# Altium footprint library switch-dil.PCBLIB: 88 footprints (part 6 of 6)
Each footprint in its own frame and in the unit in brackets; x right, y up, seen from the top. Pads: shape width x height; smd on the part's side, far side on the other; paste and mask are expansions set on the pad; w line width, h text height; cw(c..) or ccw(c..) is an arc to the next point about the centre after c.
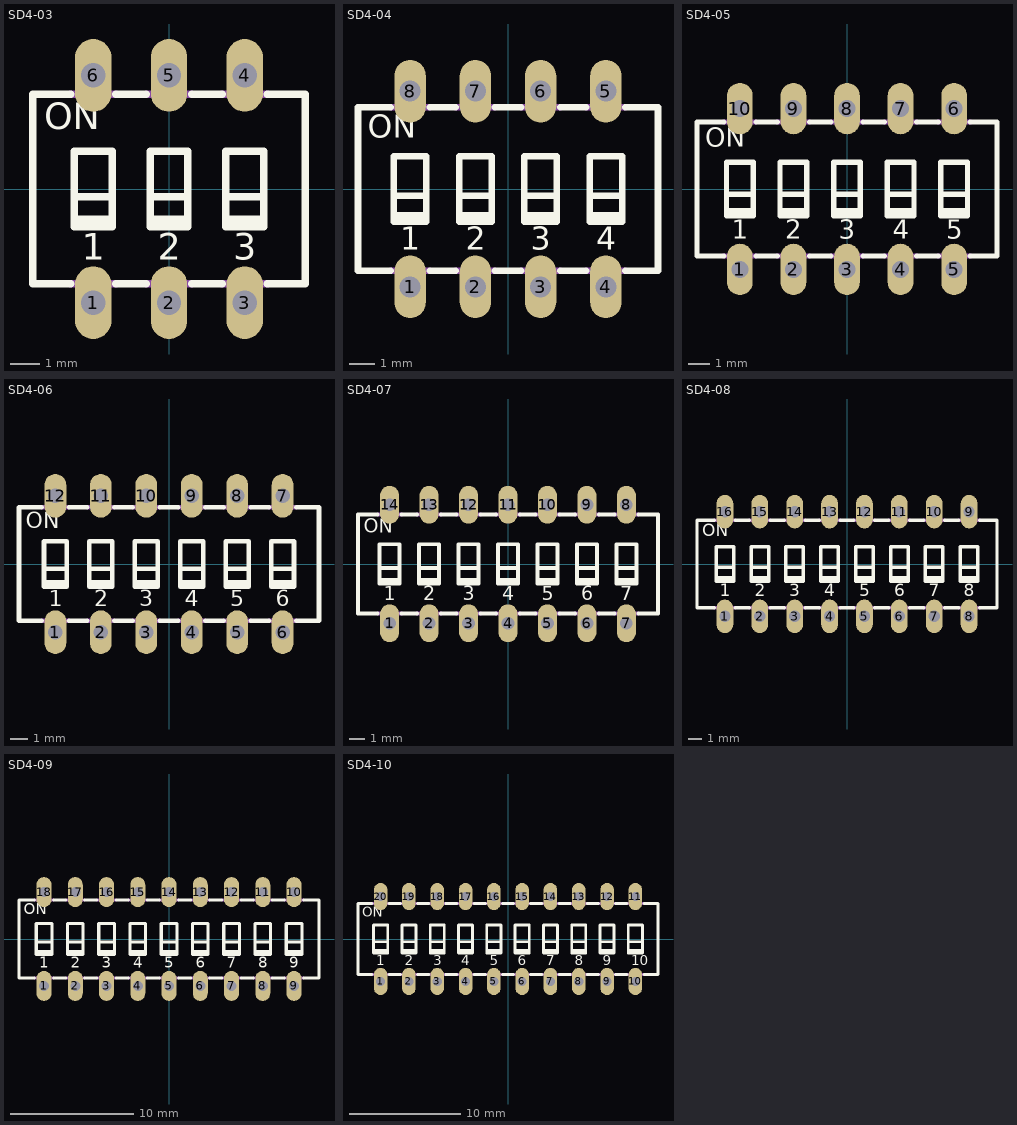
[diagram p5: the footprints below, top view; thin cyan lines are the x and y axes]

## SD4-03 [mil]
pads (6):
  oval 48x96 hole 32: 1(-100,-150) 2(0,-150) 3(100,-150) 4(100,150) 5(0,150) 6(-100,150)
Top Overlay:
  lines w10: -130,-125 -180,-125 -180,125 -130,125 ; -120,-40 -80,-40 ; -120,-10 -80,-10 ; -70,-125 -30,-125 ; -70,125 -30,125 ; -20,-40 20,-40 ; -20,-10 20,-10 ; 30,-125 70,-125 ; 30,125 70,125 ; 80,-40 120,-40 ; 80,-10 120,-10 ; 130,-125 180,-125 180,125 130,125 ; -125,-50 -75,-50 -75,50 -125,50 -125,-50 ; -25,-50 25,-50 25,50 -25,50 -25,-50 ; 75,-50 125,-50 125,50 75,50 75,-50
  text "1" at -115,-105 h60.45
  text "2" at -15,-105 h60.45
  text "3" at 85,-105 h60.45
  text "ON" at -165,67 h60.45
Mechanical 16:
  rectangle: -115,125 -85,155
  rectangle: -15,125 15,155
  rectangle: 85,125 115,155
  rectangle: -115,-155 -85,-125
  rectangle: -15,-155 15,-125
  rectangle: 85,-155 115,-125
  lines w10: -130,-125 -70,-125 ; -130,125 -70,125 ; -30,-125 30,-125 ; -30,125 30,125 ; 70,-125 130,-125 ; 70,125 130,125

## SD4-04 [mil]
pads (8):
  oval 48x96 hole 32: 1(-150,-150) 2(-50,-150) 3(50,-150) 4(150,-150) 5(150,150) 6(50,150) 7(-50,150) 8(-150,150)
Top Overlay:
  lines w10: -180,-125 -230,-125 -230,125 -180,125 ; -170,-40 -130,-40 ; -170,-10 -130,-10 ; -120,-125 -80,-125 ; -120,125 -80,125 ; -70,-40 -30,-40 ; -70,-10 -30,-10 ; -20,-125 20,-125 ; -20,125 20,125 ; 30,-40 70,-40 ; 30,-10 70,-10 ; 80,-125 120,-125 ; 80,125 120,125 ; 130,-40 170,-40 ; 130,-10 170,-10 ; 180,-125 230,-125 230,125 180,125 ; -175,-50 -125,-50 -125,50 -175,50 -175,-50 ; -75,-50 -25,-50 -25,50 -75,50 -75,-50 ; 25,-50 75,-50 75,50 25,50 25,-50 ; 125,-50 175,-50 175,50 125,50 125,-50
  text "1" at -165,-105 h60.45
  text "2" at -65,-105 h60.45
  text "3" at 35,-105 h60.45
  text "4" at 135,-105 h60.45
  text "ON" at -215,67 h60.45
Mechanical 16:
  rectangle: -165,125 -135,155
  rectangle: -65,125 -35,155
  rectangle: 35,125 65,155
  rectangle: 135,125 165,155
  rectangle: -165,-155 -135,-125
  rectangle: -65,-155 -35,-125
  rectangle: 35,-155 65,-125
  rectangle: 135,-155 165,-125
  lines w10: -180,-125 -120,-125 ; -180,125 -120,125 ; -80,-125 -20,-125 ; -80,125 -20,125 ; 20,-125 80,-125 ; 20,125 80,125 ; 120,-125 180,-125 ; 120,125 180,125

## SD4-05 [mil]
pads (10):
  oval 48x96 hole 32: 1(-200,-150) 2(-100,-150) 3(0,-150) 4(100,-150) 5(200,-150) 6(200,150) 7(100,150) 8(0,150) 9(-100,150) 10(-200,150)
Top Overlay:
  lines w10: -230,-125 -280,-125 -280,125 -230,125 ; -220,-40 -180,-40 ; -220,-10 -180,-10 ; -170,-125 -130,-125 ; -170,125 -130,125 ; -120,-40 -80,-40 ; -120,-10 -80,-10 ; -70,-125 -30,-125 ; -70,125 -30,125 ; -20,-40 20,-40 ; -20,-10 20,-10 ; 30,-125 70,-125 ; 30,125 70,125 ; 80,-40 120,-40 ; 80,-10 120,-10 ; 130,-125 170,-125 ; 130,125 170,125 ; 180,-40 220,-40 ; 180,-10 220,-10 ; 230,-125 280,-125 280,125 230,125 ; -225,-50 -175,-50 -175,50 -225,50 -225,-50 ; -125,-50 -75,-50 -75,50 -125,50 -125,-50 ; -25,-50 25,-50 25,50 -25,50 -25,-50 ; 75,-50 125,-50 125,50 75,50 75,-50 ; 175,-50 175,50 225,50 225,-50 175,-50
  text "1" at -215,-105 h60.45
  text "2" at -115,-105 h60.45
  text "3" at -15,-105 h60.45
  text "4" at 85,-105 h60.45
  text "ON" at -265,67 h60.45
  text "5" at 185,-105 h60.45
Mechanical 16:
  rectangle: -215,125 -185,155
  rectangle: -115,125 -85,155
  rectangle: -15,125 15,155
  rectangle: 85,125 115,155
  rectangle: -215,-155 -185,-125
  rectangle: -115,-155 -85,-125
  rectangle: -15,-155 15,-125
  rectangle: 85,-155 115,-125
  rectangle: 185,125 215,155
  rectangle: 185,-155 215,-125
  lines w10: -230,-125 -170,-125 ; -230,125 -170,125 ; -130,-125 -70,-125 ; -130,125 -70,125 ; -30,-125 30,-125 ; -30,125 30,125 ; 70,-125 130,-125 ; 70,125 130,125 ; 170,-125 230,-125 ; 170,125 230,125

## SD4-06 [mil]
pads (12):
  oval 48x96 hole 32: 1(-250,-150) 2(-150,-150) 3(-50,-150) 4(50,-150) 5(150,-150) 6(250,-150) 7(250,150) 8(150,150) 9(50,150) 10(-50,150) 11(-150,150) 12(-250,150)
Top Overlay:
  lines w10: -280,-125 -330,-125 -330,125 -280,125 ; -270,-40 -230,-40 ; -270,-10 -230,-10 ; -220,-125 -180,-125 ; -220,125 -180,125 ; -170,-40 -130,-40 ; -170,-10 -130,-10 ; -120,-125 -80,-125 ; -120,125 -80,125 ; -70,-40 -30,-40 ; -70,-10 -30,-10 ; -20,-125 20,-125 ; -20,125 20,125 ; 30,-40 70,-40 ; 30,-10 70,-10 ; 80,-125 120,-125 ; 80,125 120,125 ; 130,-40 170,-40 ; 130,-10 170,-10 ; 180,-125 220,-125 ; 180,125 220,125 ; 230,-40 270,-40 ; 230,-10 270,-10 ; 280,-125 330,-125 330,125 280,125 ; -275,-50 -225,-50 -225,50 -275,50 -275,-50 ; -175,-50 -125,-50 -125,50 -175,50 -175,-50 ; -75,-50 -25,-50 -25,50 -75,50 -75,-50 ; 25,-50 75,-50 75,50 25,50 25,-50 ; 125,-50 175,-50 175,50 125,50 125,-50 ; 225,-50 275,-50 275,50 225,50 225,-50
  text "1" at -265,-105 h60.45
  text "2" at -165,-105 h60.45
  text "3" at -65,-105 h60.45
  text "4" at 35,-105 h60.45
  text "ON" at -315,67 h60.45
  text "5" at 135,-105 h60.45
  text "6" at 235,-105 h60.45
Mechanical 16:
  rectangle: -265,125 -235,155
  rectangle: -165,125 -135,155
  rectangle: -65,125 -35,155
  rectangle: 35,125 65,155
  rectangle: -265,-155 -235,-125
  rectangle: -165,-155 -135,-125
  rectangle: -65,-155 -35,-125
  rectangle: 35,-155 65,-125
  rectangle: 135,125 165,155
  rectangle: 235,125 265,155
  rectangle: 135,-155 165,-125
  rectangle: 235,-155 265,-125
  lines w10: -280,-125 -220,-125 ; -280,125 -220,125 ; -180,-125 -120,-125 ; -180,125 -120,125 ; -80,-125 -20,-125 ; -80,125 -20,125 ; 20,-125 80,-125 ; 20,125 80,125 ; 120,-125 180,-125 ; 120,125 180,125 ; 220,-125 280,-125 ; 220,125 280,125

## SD4-07 [mil]
pads (14):
  oval 48x96 hole 32: 1(-300,-150) 2(-200,-150) 3(-100,-150) 4(0,-150) 5(100,-150) 6(200,-150) 7(300,-150) 8(300,150) 9(200,150) 10(100,150) 11(0,150) 12(-100,150) 13(-200,150) 14(-300,150)
Top Overlay:
  lines w10: -330,-125 -380,-125 -380,125 -330,125 ; -320,-40 -280,-40 ; -320,-10 -280,-10 ; -270,-125 -230,-125 ; -270,125 -230,125 ; -220,-40 -180,-40 ; -220,-10 -180,-10 ; -170,-125 -130,-125 ; -170,125 -130,125 ; -120,-40 -80,-40 ; -120,-10 -80,-10 ; -70,-125 -30,-125 ; -70,125 -30,125 ; -20,-40 20,-40 ; -20,-10 20,-10 ; 30,-125 70,-125 ; 30,125 70,125 ; 80,-40 120,-40 ; 80,-10 120,-10 ; 130,-125 170,-125 ; 130,125 170,125 ; 180,-40 220,-40 ; 180,-10 220,-10 ; 230,-125 270,-125 ; 230,125 270,125 ; 280,-40 320,-40 ; 280,-10 320,-10 ; 330,-125 380,-125 380,125 330,125 ; -325,-50 -275,-50 -275,50 -325,50 -325,-50 ; -225,-50 -175,-50 -175,50 -225,50 -225,-50 ; -125,-50 -75,-50 -75,50 -125,50 -125,-50 ; -25,-50 25,-50 25,50 -25,50 -25,-50 ; 75,-50 125,-50 125,50 75,50 75,-50 ; 175,-50 225,-50 225,50 175,50 175,-50 ; 275,-50 325,-50 325,50 275,50 275,-50
  text "1" at -315,-105 h60.45
  text "2" at -215,-105 h60.45
  text "3" at -115,-105 h60.45
  text "4" at -15,-105 h60.45
  text "ON" at -365,67 h60.45
  text "5" at 85,-105 h60.45
  text "6" at 185,-105 h60.45
  text "7" at 285,-105 h60.45
Mechanical 16:
  rectangle: -315,125 -285,155
  rectangle: -215,125 -185,155
  rectangle: -115,125 -85,155
  rectangle: -15,125 15,155
  rectangle: -315,-155 -285,-125
  rectangle: -215,-155 -185,-125
  rectangle: -115,-155 -85,-125
  rectangle: -15,-155 15,-125
  rectangle: 85,125 115,155
  rectangle: 185,125 215,155
  rectangle: 285,125 315,155
  rectangle: 85,-155 115,-125
  rectangle: 185,-155 215,-125
  rectangle: 285,-155 315,-125
  lines w10: -330,-125 -270,-125 ; -330,125 -270,125 ; -230,-125 -170,-125 ; -230,125 -170,125 ; -130,-125 -70,-125 ; -130,125 -70,125 ; -30,-125 30,-125 ; -30,125 30,125 ; 70,-125 130,-125 ; 70,125 130,125 ; 170,-125 230,-125 ; 170,125 230,125 ; 270,-125 330,-125 ; 270,125 330,125

## SD4-08 [mil]
pads (16):
  oval 48x96 hole 32: 1(-350,-150) 2(-250,-150) 3(-150,-150) 4(-50,-150) 5(50,-150) 6(150,-150) 7(250,-150) 8(350,-150) 9(350,150) 10(250,150) 11(150,150) 12(50,150) 13(-50,150) 14(-150,150) 15(-250,150) 16(-350,150)
Top Overlay:
  lines w10: -380,-125 -430,-125 -430,125 -380,125 ; -370,-40 -330,-40 ; -370,-10 -330,-10 ; -320,-125 -280,-125 ; -320,125 -280,125 ; -270,-40 -230,-40 ; -270,-10 -230,-10 ; -220,-125 -180,-125 ; -220,125 -180,125 ; -170,-40 -130,-40 ; -170,-10 -130,-10 ; -120,-125 -80,-125 ; -120,125 -80,125 ; -70,-40 -30,-40 ; -70,-10 -30,-10 ; -20,-125 20,-125 ; -20,125 20,125 ; 30,-40 70,-40 ; 30,-10 70,-10 ; 80,-125 120,-125 ; 80,125 120,125 ; 130,-40 170,-40 ; 130,-10 170,-10 ; 180,-125 220,-125 ; 180,125 220,125 ; 230,-40 270,-40 ; 230,-10 270,-10 ; 280,-125 320,-125 ; 280,125 320,125 ; 330,-40 370,-40 ; 330,-10 370,-10 ; 380,-125 430,-125 430,125 380,125 ; -375,-50 -325,-50 -325,50 -375,50 -375,-50 ; -275,-50 -225,-50 -225,50 -275,50 -275,-50 ; -175,-50 -125,-50 -125,50 -175,50 -175,-50 ; -75,-50 -25,-50 -25,50 -75,50 -75,-50 ; 25,-50 75,-50 75,50 25,50 25,-50 ; 125,-50 175,-50 175,50 125,50 125,-50 ; 225,-50 275,-50 275,50 225,50 225,-50 ; 325,-50 375,-50 375,50 325,50 325,-50
  text "1" at -365,-105 h60.45
  text "2" at -265,-105 h60.45
  text "3" at -165,-105 h60.45
  text "4" at -65,-105 h60.45
  text "ON" at -415,67 h60.45
  text "5" at 35,-105 h60.45
  text "6" at 135,-105 h60.45
  text "7" at 235,-105 h60.45
  text "8" at 335,-105 h60.45
Mechanical 16:
  rectangle: -365,125 -335,155
  rectangle: -265,125 -235,155
  rectangle: -165,125 -135,155
  rectangle: -65,125 -35,155
  rectangle: -365,-155 -335,-125
  rectangle: -265,-155 -235,-125
  rectangle: -165,-155 -135,-125
  rectangle: -65,-155 -35,-125
  rectangle: 35,125 65,155
  rectangle: 135,125 165,155
  rectangle: 235,125 265,155
  rectangle: 35,-155 65,-125
  rectangle: 135,-155 165,-125
  rectangle: 235,-155 265,-125
  rectangle: 335,125 365,155
  rectangle: 335,-155 365,-125
  lines w10: -380,-125 -320,-125 ; -380,125 -320,125 ; -280,-125 -220,-125 ; -280,125 -220,125 ; -180,-125 -120,-125 ; -180,125 -120,125 ; -80,-125 -20,-125 ; -80,125 -20,125 ; 20,-125 80,-125 ; 20,125 80,125 ; 120,-125 180,-125 ; 120,125 180,125 ; 220,-125 280,-125 ; 220,125 280,125 ; 320,-125 380,-125 ; 320,125 380,125

## SD4-09 [mil]
pads (18):
  oval 48x96 hole 32: 1(-400,-150) 2(-300,-150) 3(-200,-150) 4(-100,-150) 5(0,-150) 6(100,-150) 7(200,-150) 8(300,-150) 9(400,-150) 10(400,150) 11(300,150) 12(200,150) 13(100,150) 14(0,150) 15(-100,150) 16(-200,150) 17(-300,150) 18(-400,150)
Top Overlay:
  lines w10: -430,-125 -480,-125 -480,125 -430,125 ; -420,-40 -380,-40 ; -420,-10 -380,-10 ; -370,-125 -330,-125 ; -370,125 -330,125 ; -320,-40 -280,-40 ; -320,-10 -280,-10 ; -270,-125 -230,-125 ; -270,125 -230,125 ; -220,-40 -180,-40 ; -220,-10 -180,-10 ; -170,-125 -130,-125 ; -170,125 -130,125 ; -120,-40 -80,-40 ; -120,-10 -80,-10 ; -70,-125 -30,-125 ; -70,125 -30,125 ; -20,-40 20,-40 ; -20,-10 20,-10 ; 30,-125 70,-125 ; 30,125 70,125 ; 80,-40 120,-40 ; 80,-10 120,-10 ; 130,-125 170,-125 ; 130,125 170,125 ; 180,-40 220,-40 ; 180,-10 220,-10 ; 230,-125 270,-125 ; 230,125 270,125 ; 280,-40 320,-40 ; 280,-10 320,-10 ; 330,-125 370,-125 ; 330,125 370,125 ; 380,-40 420,-40 ; 380,-10 420,-10 ; 430,-125 480,-125 480,125 430,125 ; -425,-50 -375,-50 -375,50 -425,50 -425,-50 ; -325,-50 -275,-50 -275,50 -325,50 -325,-50 ; -225,-50 -175,-50 -175,50 -225,50 -225,-50 ; -125,-50 -75,-50 -75,50 -125,50 -125,-50 ; -25,-50 25,-50 25,50 -25,50 -25,-50 ; 75,-50 125,-50 125,50 75,50 75,-50 ; 175,-50 225,-50 225,50 175,50 175,-50 ; 275,-50 325,-50 325,50 275,50 275,-50 ; 375,-50 425,-50 425,50 375,50 375,-50
  text "1" at -415,-105 h60.45
  text "2" at -315,-105 h60.45
  text "3" at -215,-105 h60.45
  text "4" at -115,-105 h60.45
  text "ON" at -465,67 h60.45
  text "5" at -15,-105 h60.45
  text "6" at 85,-105 h60.45
  text "7" at 185,-105 h60.45
  text "8" at 285,-105 h60.45
  text "9" at 385,-105 h60.45
Mechanical 16:
  rectangle: -415,125 -385,155
  rectangle: -315,125 -285,155
  rectangle: -215,125 -185,155
  rectangle: -115,125 -85,155
  rectangle: -415,-155 -385,-125
  rectangle: -315,-155 -285,-125
  rectangle: -215,-155 -185,-125
  rectangle: -115,-155 -85,-125
  rectangle: -15,125 15,155
  rectangle: 85,125 115,155
  rectangle: 185,125 215,155
  rectangle: -15,-155 15,-125
  rectangle: 85,-155 115,-125
  rectangle: 185,-155 215,-125
  rectangle: 285,125 315,155
  rectangle: 385,125 415,155
  rectangle: 285,-155 315,-125
  rectangle: 385,-155 415,-125
  lines w10: -430,-125 -370,-125 ; -430,125 -370,125 ; -330,-125 -270,-125 ; -330,125 -270,125 ; -230,-125 -170,-125 ; -230,125 -170,125 ; -130,-125 -70,-125 ; -130,125 -70,125 ; -30,-125 30,-125 ; -30,125 30,125 ; 70,-125 130,-125 ; 70,125 130,125 ; 170,-125 230,-125 ; 170,125 230,125 ; 270,-125 330,-125 ; 270,125 330,125 ; 370,-125 430,-125 ; 370,125 430,125

## SD4-10 [mil]
pads (20):
  oval 48x96 hole 32: 1(-450,-150) 2(-350,-150) 3(-250,-150) 4(-150,-150) 5(-50,-150) 6(50,-150) 7(150,-150) 8(250,-150) 9(350,-150) 10(450,-150) 11(450,150) 12(350,150) 13(250,150) 14(150,150) 15(50,150) 16(-50,150) 17(-150,150) 18(-250,150) 19(-350,150) 20(-450,150)
Top Overlay:
  lines w10: -480,-125 -530,-125 -530,125 -480,125 ; -470,-40 -430,-40 ; -470,-10 -430,-10 ; -420,-125 -380,-125 ; -420,125 -380,125 ; -370,-40 -330,-40 ; -370,-10 -330,-10 ; -320,-125 -280,-125 ; -320,125 -280,125 ; -270,-40 -230,-40 ; -270,-10 -230,-10 ; -220,-125 -180,-125 ; -220,125 -180,125 ; -170,-40 -130,-40 ; -170,-10 -130,-10 ; -120,-125 -80,-125 ; -120,125 -80,125 ; -70,-40 -30,-40 ; -70,-10 -30,-10 ; -20,-125 20,-125 ; -20,125 20,125 ; 30,-40 70,-40 ; 30,-10 70,-10 ; 80,-125 120,-125 ; 80,125 120,125 ; 130,-40 170,-40 ; 130,-10 170,-10 ; 180,-125 220,-125 ; 180,125 220,125 ; 230,-40 270,-40 ; 230,-10 270,-10 ; 280,-125 320,-125 ; 280,125 320,125 ; 330,-40 370,-40 ; 330,-10 370,-10 ; 380,-125 420,-125 ; 380,125 420,125 ; 430,-40 470,-40 ; 430,-10 470,-10 ; 480,-125 530,-125 530,125 480,125 ; -475,-50 -425,-50 -425,50 -475,50 -475,-50 ; -375,-50 -325,-50 -325,50 -375,50 -375,-50 ; -275,-50 -225,-50 -225,50 -275,50 -275,-50 ; -175,-50 -125,-50 -125,50 -175,50 -175,-50 ; -75,-50 -25,-50 -25,50 -75,50 -75,-50 ; 25,-50 75,-50 75,50 25,50 25,-50 ; 125,-50 175,-50 175,50 125,50 125,-50 ; 225,-50 275,-50 275,50 225,50 225,-50 ; 325,-50 375,-50 375,50 325,50 325,-50 ; 425,-50 475,-50 475,50 425,50 425,-50
  text "1" at -465,-105 h60.45
  text "2" at -365,-105 h60.45
  text "3" at -265,-105 h60.45
  text "4" at -165,-105 h60.45
  text "ON" at -515,67 h60.45
  text "5" at -65,-105 h60.45
  text "6" at 35,-105 h60.45
  text "7" at 135,-105 h60.45
  text "8" at 235,-105 h60.45
  text "9" at 335,-105 h60.45
  text "10" at 435,-105 h60.45
Mechanical 16:
  rectangle: -465,125 -435,155
  rectangle: -365,125 -335,155
  rectangle: -265,125 -235,155
  rectangle: -165,125 -135,155
  rectangle: -465,-155 -435,-125
  rectangle: -365,-155 -335,-125
  rectangle: -265,-155 -235,-125
  rectangle: -165,-155 -135,-125
  rectangle: -65,125 -35,155
  rectangle: 35,125 65,155
  rectangle: 135,125 165,155
  rectangle: -65,-155 -35,-125
  rectangle: 35,-155 65,-125
  rectangle: 135,-155 165,-125
  rectangle: 235,125 265,155
  rectangle: 335,125 365,155
  rectangle: 435,125 465,155
  rectangle: 235,-155 265,-125
  rectangle: 335,-155 365,-125
  rectangle: 435,-155 465,-125
  lines w10: -480,-125 -420,-125 ; -480,125 -420,125 ; -380,-125 -320,-125 ; -380,125 -320,125 ; -280,-125 -220,-125 ; -280,125 -220,125 ; -180,-125 -120,-125 ; -180,125 -120,125 ; -80,-125 -20,-125 ; -80,125 -20,125 ; 20,-125 80,-125 ; 20,125 80,125 ; 120,-125 180,-125 ; 120,125 180,125 ; 220,-125 280,-125 ; 220,125 280,125 ; 320,-125 380,-125 ; 320,125 380,125 ; 420,-125 480,-125 ; 420,125 480,125